# Altium schematic symbol library WL-STRB.SchLib: 2 symbols
Pins are listed as number, name and electrical type; pins without a type are passive.

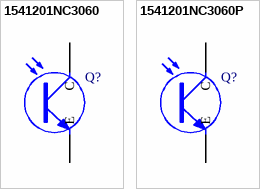
[diagram p0: symbols 1541201NC3060 to 1541201NC3060P]

## 1541201NC3060
designator Q?  (value not drawn)
WL-STRB SMT Phototransistor Reverse mount Black, size 1206, 700-1100nm, 4.4mA, 30°; Manufacturer: Wurth Elektronik; Case/Size Code: 1206; Chip Technology: Si; Collector Current Min: 0.6mA; Collector-Emitter Dark Current: 100nA; Polarity: NPN Phototransistor; Range of Spectral Bandwidth Min: 700nm; Range of Spectral Bandwidth Max: 1100nm; Wavelength of Peak Sensitivity: 940nm; ComponentLink1Description: Website Link; ComponentLink1URL: https://www.we-online.com/redexpert/article/1541201NC3060?ad; ComponentLink2Description: Datasheet Link; ComponentLink2URL: https://www.we-online.com/redexpert/spec/1541201NC3060?ad; Manufacturer Part Number: 1541201NC3060; Category: Phototransistors; Match Code: WL-STRB; Mount: Surface Mount; Operating Temperature Max: 85°C; Operating Temperature Min: -40°C; Packaging: Tape and Reel; Length: 3.2mm; Width: 1.6mm; Height: 1.85mm; Collector Current: 4.4mA; Viewing Angle: 30°
footprint WL-STRB_1206_normal use
footprint WL-STRB_1206_reverse use
pins: 1 C, 2 E

## 1541201NC3060P
designator Q?  (value not drawn)
WL-STRB SMT Phototransistor Reverse mount Black, size 1206, 700-1100nm, 4.4mA, 30°; Manufacturer: Wurth Elektronik; Case/Size Code: 1206; Chip Technology: Si; Collector Current Min: 0.6mA; Collector-Emitter Dark Current: 100nA; Polarity: NPN Phototransistor; Range of Spectral Bandwidth Min: 700nm; Range of Spectral Bandwidth Max: 1100nm; Wavelength of Peak Sensitivity: 940nm; ComponentLink1Description: Website Link; ComponentLink1URL: https://www.we-online.com/redexpert/article/1541201NC3060P?ad; ComponentLink2Description: Datasheet Link; ComponentLink2URL: https://www.we-online.com/redexpert/spec/1541201NC3060P?ad; Manufacturer Part Number: 1541201NC3060P; Category: Phototransistors; Match Code: WL-STRB; Mount: Surface Mount; Operating Temperature Max: 85°C; Operating Temperature Min: -40°C; Packaging: Tape and Reel; Length: 3.2mm; Width: 1.6mm; Height: 1.85mm; Collector Current: 4.4mA; Viewing Angle: 30°
footprint WL-STRB_1206_normal use
footprint WL-STRB_1206_reverse use
pins: 1 C, 2 E